# EAGLE library part M20-8750642 (library SamacSys_Parts)
Headers & Wire Housings 2.54mm 6+6 DIL SMT P/HDR W/PEGS Source: Datasheet <https://cdn.harwin.com/pdfs/M20-875.pdf>
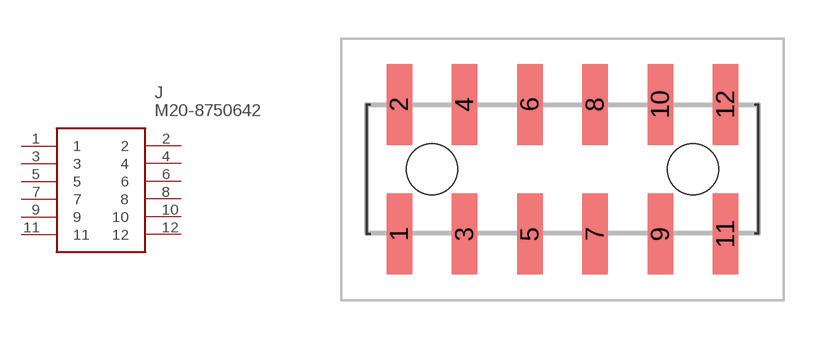
[diagram p4: symbol with the pads of M208750642; footprint M208750642]

Designator prefix J

## M20-8750642 (Description: Headers & Wire Housings 2.54mm 6+6 DIL SMT P/HDR W/PEGS; Height: 8.54mm; Manufacturer_Name: Harwin; Manufacturer_Part_Number: M20-8750642; Mouser_Part_Number: 855-M20-8750642; Mouser_Price-Stock: https://www.mouser.co.uk/ProductDetail/Harwin/M20-8750642?qs=k41KVqW3ymq7k8WHp%252BZP5Q%3D%3D)  [M208750642]
1  1
2  2
3  3
4  4
5  5
6  6
7  7
8  8
9  9
10  10
11  11
12  12

## Footprint M208750642 (pad centres in mm)
M20-8750642-1
smd 1 x 3.15: 1 -6.35,-2.525; 2 -6.35,2.525; 3 -3.81,-2.525; 4 -3.81,2.525; 5 -1.27,-2.525; 6 -1.27,2.525; 7 1.27,-2.525; 8 1.27,2.525; 9 3.81,-2.525; 10 3.81,2.525; 11 6.35,-2.525; 12 6.35,2.525
hole 2 at -5.08,0
hole 2 at 5.08,0